# Altium schematic symbol library TPS629210DRLR.SchLib: 1 symbol
Pins are listed as number, name and electrical type; pins without a type are passive.

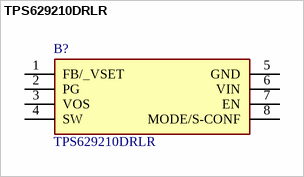
[diagram p0: symbol TPS629210DRLR]

## TPS629210DRLR
designator B?
Switching Voltage Regulators 3-V to 17-V, 1-A, high-efficiency, low-IQ, synchronous buck converter in SOT-583 package; Manufacturer_Name: Texas Instruments; Geometry.Height: 0.6mm; Manufacturer_Part_Number: TPS629210DRLR; Mouser Part Number: 595-TPS629210DRLR; Mouser Price/Stock: https://www.mouser.co.uk/ProductDetail/Texas-Instruments/TPS629210DRLR?qs=Li%252BoUPsLEnsX3b8tM78U3g%3D%3D; Arrow Part Number: *; Arrow Price/Stock: *; Datasheet Link: https://www.ti.com/lit/ds/symlink/tps629210.pdf?ts=1684986394369
footprint SOTFL50P160X60-8N
pins: 1 FB/_VSET, 2 PG, 3 VOS, 4 SW, 5 GND, 6 VIN, 7 EN, 8 MODE/S-CONF